# Altium footprint library PcbLib_ADH.PcbLib: 136 footprints (part 8 of 9)
Each footprint in its own frame and in the unit in brackets; x right, y up, seen from the top. Pads: shape width x height; smd on the part's side, far side on the other; paste and mask are expansions set on the pad; w line width, h text height; cw(c..) or ccw(c..) is an arc to the next point about the centre after c.
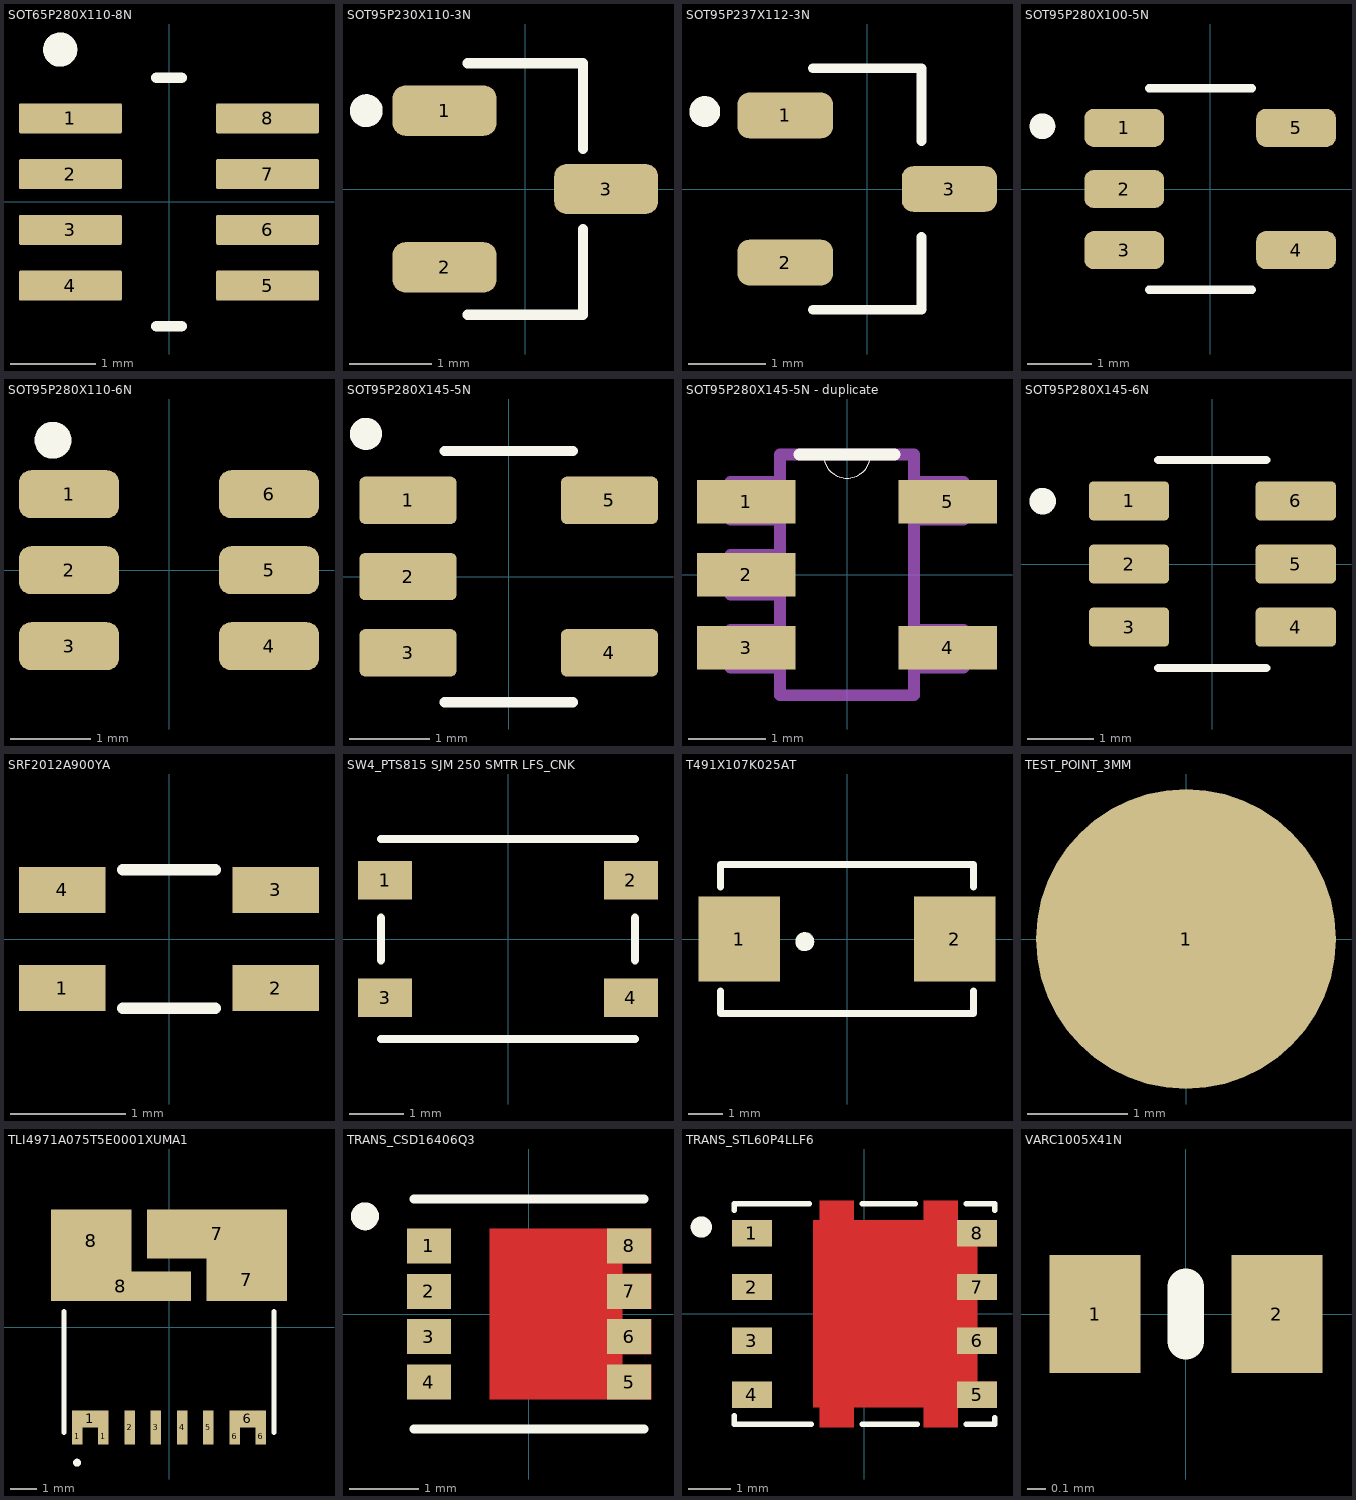
[diagram p7: the footprints below, top view; thin cyan lines are the x and y axes]

## SOT65P280X110-8N [mm]
pads (8):
  rrect10% 1.2x0.35 smd: 1(-1.15,0.975) 2(-1.15,0.325) 3(-1.15,-0.325) 4(-1.15,-0.975) 5(1.15,-0.975) 6(1.15,-0.325) 7(1.15,0.325) 8(1.15,0.975)
Top Overlay:
  circle w0.2: c-1.27,1.778 r0.1
  lines w0.127: -0.145,-1.45 0.145,-1.45 ; -0.145,1.45 0.145,1.45
3D body "step_temp.STEP": height 1.1, standoff 0, extent -1.4,-1.45 1.4,1.45

## SOT95P230X110-3N [mm]
pads (3):
  rrect50% 1.26x0.61 smd: 1(-0.98,0.95) 2(-0.98,-0.95) 3(0.98,0)
Top Overlay:
  circle w0.2: c-1.93,0.95 r0.1
  lines w0.127: -0.7,-1.525 0.7,-1.525 0.7,-0.489 ; -0.7,1.525 0.7,1.525 0.7,0.489
3D body "MMBT3904-7-F.STEP": height 1.03, standoff -0.09, extent -1.21,-1.5 1.21,1.5

## SOT95P237X112-3N [mm]
pads (3):
  rrect50% 1.23x0.59 smd: 1(-1.06,0.95) 2(-1.06,-0.95) 3(1.06,0)
Top Overlay:
  circle w0.2: c-2.1,1 r0.1
  lines w0.127: -0.7,-1.56 0.7,-1.56 0.7,-0.62 ; -0.7,1.56 0.7,1.56 0.7,0.62
3D body "step_temp.STEP": height 1.12, standoff 0, extent -1.175,-1.46 1.175,1.46

## SOT95P280X100-5N [mm]
pads (5):
  rrect50% 1.24x0.59 smd: 1(-1.335,0.95) 2(-1.335,0) 3(-1.335,-0.95) 4(1.335,-0.95) 5(1.335,0.95)
Top Overlay:
  circle w0.2: c-2.605,0.975 r0.1
  lines w0.127: -0.95,-1.565 0.65,-1.565 ; -0.95,1.565 0.65,1.565
3D body "LT8300IS5#TRMPBF.STEP": height 0.91, standoff -0.09, extent -1.4,-1.45 1.4,1.45

## SOT95P280X110-6N [mm]
pads (6):
  rrect50% 1.25x0.6 smd: 1(-1.25,0.95) 2(-1.25,0) 3(-1.25,-0.95) 4(1.25,-0.95) 5(1.25,0) 6(1.25,0.95)
Top Overlay:
  circle w0.25: c-1.45,1.625 r0.106
3D body "LMR51430YDDCR.stp": height 0.97, standoff 0, extent -1.4,-1.45 1.4,1.45

## SOT95P280X145-5N [mm]
pads (5):
  rrect25% 1.21x0.59 smd: 1(-1.255,0.95) 2(-1.255,0) 3(-1.255,-0.95) 4(1.255,-0.95) 5(1.255,0.95)
Top Overlay:
  circle w0.2: c-1.778,1.778 r0.1
  lines w0.127: -0.8,-1.565 0.8,-1.565 ; -0.8,1.565 0.8,1.565
3D body "step_temp.STEP": height 1.45, standoff 0, extent -1.4,-1.45 1.4,1.45

## SOT95P280X145-5N - duplicate [mil]
pads (5):
  rect 50x22 smd: 1(-51,37) 2(-51,0) 3(-51,-37) 4(51,-37) 5(51,37)
Top Overlay:
  lines w0: -12,61 ccw(c0,61) 12,61
  lines w6: -24,61 -12,61 12,61 24,61
Mechanical 13:
  lines w0: -12,61 ccw(c0,61) 12,61
  lines w6: -34,-47 -59,-47 -59,-28 -34,-28 ; -34,-47 -34,-28 ; -34,-47 -34,-61 34,-61 34,-47 ; -34,-28 -34,-10 ; -34,-10 -59,-10 -59,10 -34,10 ; -34,-10 -34,10 ; -34,10 -34,28 ; -34,28 -59,28 -59,47 -34,47 ; -34,28 -34,47 ; -34,47 -34,61 -12,61 12,61 34,61 34,47 ; 34,-47 59,-47 59,-28 34,-28 ; 34,-47 34,-28 ; 34,-28 34,28 ; 34,28 59,28 59,47 34,47 ; 34,28 34,47
3D body "step_temp.STEP": height 57.09, standoff 0, extent -53.15,-57.09 53.15,57.09

## SOT95P280X145-6N [mm]
pads (6):
  rrect25% 1.21x0.59 smd: 1(-1.255,0.95) 2(-1.255,0) 3(-1.255,-0.95) 4(1.255,-0.95) 5(1.255,0) 6(1.255,0.95)
Top Overlay:
  circle w0.2: c-2.555,0.945 r0.1
  lines w0.127: -0.813,-1.565 0.813,-1.565 ; -0.813,1.565 0.813,1.565
3D body "step_temp.STEP": height 1.42, standoff -0.03, extent -1.4,-1.462 1.4,1.462

## SRF2012A900YA [mm]
pads (4):
  rect 0.75x0.4 smd: 1(-0.925,-0.425) 2(0.925,-0.425) 3(0.925,0.425) 4(-0.925,0.425)
Top Overlay:
  lines w0.1: -0.4,-0.6 0.4,-0.6 ; -0.4,0.6 0.4,0.6
3D body "User Library-SRF2012A.STEP": height 1.21, standoff 0.02, extent -1,-0.6 1,0.6

## SW4_PTS815 SJM 250 SMTR LFS_CNK [mm]
pads (4):
  rect 0.991x0.711 smd paste+0 mask+0: 1(-2.25,1.075) 2(2.25,1.075) 3(-2.25,-1.075) 4(2.25,-1.075)
Top Overlay:
  lines w0.152: -2.324,-1.829 2.324,-1.829 ; -2.324,-0.387 -2.324,0.387 ; -2.324,1.829 2.324,1.829 ; 2.324,-0.387 2.324,0.387

## T491X107K025AT [mm]
pads (2):
  rect 2.35x2.45 smd: 1(-3.1,0) 2(3.1,0)
Top Overlay:
  circle w0.127: c-1.167,-0.127 r0.112
  circle w0.127: c-1.267,-0.077 r0.112
  circle w0.127: c-1.217,-0.077 r0.212
  lines w0.2: -3.65,-1.5 -3.65,-2.15 3.65,-2.15 3.65,-1.5 ; -3.65,1.5 -3.65,2.15 3.65,2.15 3.65,1.5
3D body "step_temp.STEP": height 4.3, standoff 0, extent -3.65,-2.15 3.65,2.15

## TEST_POINT_3MM [mm]
pads (1):
  round 3 smd: 1(0,0)

## TLI4971A075T5E0001XUMA1 [mm]
pads (14):
  rect 0.4x0.65 smd: 1(-3.5,-4.135) 1(-2.5,-4.135) 6(2.5,-4.135) 6(3.5,-4.135)
  rect 1.4x0.65 smd: 1(-3,-3.48) 6(3,-3.48)
  rect 0.4x1.3 smd: 2(-1.5,-3.805) 3(-0.5,-3.805) 4(0.5,-3.805) 5(1.5,-3.805)
  rect 5.33x1.875 smd: 7(1.835,3.563)
  rect 3.07x1.625 smd: 7(2.965,1.813)
  rect 3.07x2.375 smd: 8(-2.965,3.313)
  rect 5.33x1.125 smd: 8(-1.835,1.563)
Top Overlay:
  lines w0.2: -4,-4 -4,0.6 ; 4,-4 4,0.6 ; -3.5,-5.2 ccw(c-3.5,-5.15) -3.5,-5.1 ; -3.5,-5.2 cw(c-3.5,-5.15) -3.5,-5.1 ; -3.5,-5.2 ccw(c-3.5,-5.15) -3.5,-5.1
3D body "TLI4971A050T5UE0001XUMA1--3DModel-STEP-56544.STEP": height 1.1, standoff 0, extent -4,-4 4,4

## TRANS_CSD16406Q3 [mm]
pads (8):
  rect 0.63x0.5 smd paste-1: 1(-1.435,0.975) 2(-1.435,0.325) 3(-1.435,-0.325) 4(-1.435,-0.975)
  rect 0.63x0.5 smd paste-1 mask+0: 5(1.435,-0.975) 6(1.435,-0.325) 7(1.435,0.325) 8(1.435,0.975)
Top Layer:
  region: 1.75,0.725 1.34,0.725 1.34,0.575 1.75,0.575 1.75,0.075 1.34,0.075 1.34,-0.075 1.75,-0.075 1.75,-0.575 1.34,-0.575 1.34,-0.725 1.75,-0.725 1.75,-1.225 -0.56,-1.225 -0.56,1.225 1.75,1.225
Top Overlay:
  circle w0.2: c-2.35,1.4 r0.1
  lines w0.127: -1.65,-1.65 1.65,-1.65 ; -1.65,1.65 1.65,1.65
Top Paste:
  region: 0.985,-0.125 -0.46,-0.125 -0.46,1.145 0.985,1.145
  region: 1.66,0.155 1.21,0.155 1.21,0.495 1.66,0.495
  region: 1.66,0.805 1.21,0.805 1.21,1.145 1.66,1.145
  region: 1.66,-0.495 1.21,-0.495 1.21,-0.155 1.66,-0.155
  region: 1.66,-1.145 1.21,-1.145 1.21,-0.805 1.66,-0.805
  region: -1.21,-0.495 -1.66,-0.495 -1.66,-0.155 -1.21,-0.155
  region: -1.21,-1.145 -1.66,-1.145 -1.66,-0.805 -1.21,-0.805
  region: -1.21,0.155 -1.66,0.155 -1.66,0.495 -1.21,0.495
  region: -1.21,0.805 -1.66,0.805 -1.66,1.145 -1.21,1.145
  region: 0.985,-1.145 -0.46,-1.145 -0.46,-0.125 0.985,-0.125
Top Solder:
  region: 1.85,-1.325 -0.66,-1.325 -0.66,1.325 1.85,1.325
3D body "CSD16406Q3.STEP": height 1.11, standoff 0.01, extent -1.65,-1.65 1.65,1.65

## TRANS_STL60P4LLF6 [mm]
pads (8):
  rect 0.94x0.62 smd: 1(-2.655,1.905) 2(-2.655,0.635) 3(-2.655,-0.635) 4(-2.655,-1.905) 5(2.655,-1.905) 6(2.655,-0.635) 7(2.655,0.635) 8(2.655,1.905)
Top Layer:
  region: 2.195,2.205 3.12,2.205 3.12,1.6 2.655,1.6 2.655,0.94 3.12,0.94 3.12,0.33 2.655,0.33 2.655,-0.33 3.12,-0.33 3.12,-0.94 2.655,-0.94 2.655,-1.6 3.12,-1.6 3.12,-2.205 2.195,-2.205 2.195,-2.675 1.395,-2.675 1.395,-2.205 -0.255,-2.205 -0.255,-2.675 -1.055,-2.675 -1.055,-2.205 -1.205,-2.205 -1.205,2.205 -1.055,2.205 -1.055,2.675 -0.255,2.675 -0.255,2.205 1.395,2.205 1.395,2.675 2.195,2.675
Top Overlay:
  circle w0.3: c-3.85,2.05 r0.1
  lines w0.127: -3.075,-2.4 -3.075,-2.6 -1.25,-2.6 ; -3.075,2.45 -3.075,2.6 -1.3,2.6 ; -0.05,-2.6 1.25,-2.6 ; -0.05,2.6 1.2,2.6 ; 2.4,-2.6 3.075,-2.6 3.075,-2.45 ; 2.4,2.6 3.075,2.6 3.075,2.45
Top Paste:
  region: 1.7,-1.552 -0.701,-1.552 -0.701,1.55 1.7,1.55
Top Solder:
  region: 2.75,-2.303 -1.302,-2.303 -1.302,2.3 2.75,2.3
  region: -0.2,2.253 -1.101,2.253 -1.101,2.75 -0.2,2.75
  region: 2.25,2.251 1.35,2.251 1.35,2.75 2.25,2.75
  region: -0.2,-2.752 -1.101,-2.752 -1.101,-2.25 -0.2,-2.25
  region: 2.25,-2.752 1.351,-2.752 1.351,-2.25 2.25,-2.25
3D body "step_temp.STEP": height 1, standoff 0, extent -3.075,-2.6 3.075,2.6

## VARC1005X41N [mm]
pads (2):
  rect 0.5x0.65 smd: 1(-0.5,0) 2(0.5,0)
Top Overlay:
  lines w0.2: 0,-0.15 0,0.15
3D body "CG0402MLU-3.3G.stp": height 0.41, standoff 0, extent -0.5,-0.25 0.5,0.25